# EAGLE library part 2A1024 (library Gemelke_Lab)
SRAM with SPI Interface
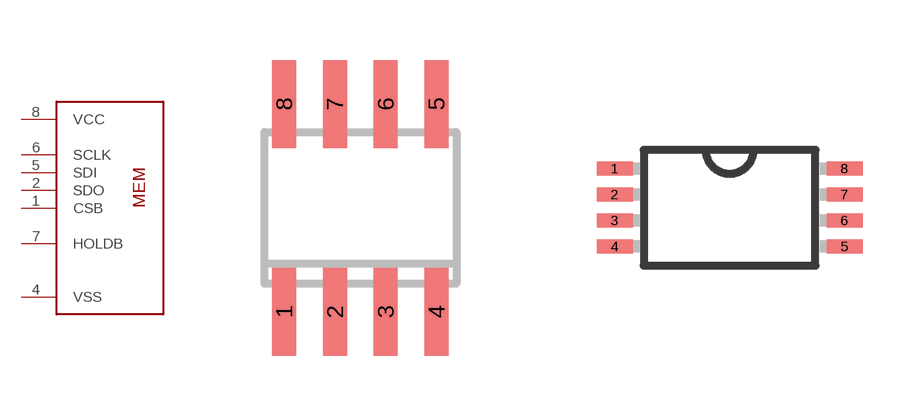
[diagram p6: symbol with the pads of SOIC8; footprints SOIC8, TSSOP8]

Designator prefix -

## 2A1024  [SOIC8]
1  CSB
2  SDO
4  VSS  pwr
5  SDI
6  SCLK
7  HOLDB  pwr
8  VCC  pwr

## 2A1024TSSOP8  [TSSOP8]
Pads as for SOIC8

## Footprint SOIC8 (pad centres in mm)
Small Outline IC
smd 0.6 x 2.2: 1 -1.905,-2.6; 2 -0.635,-2.6; 3 0.635,-2.6; 4 1.905,-2.6; 5 1.905,2.6; 6 0.635,2.6; 7 -0.635,2.6; 8 -1.905,2.6

## Footprint TSSOP8 (pad centres in mm)
8-Lead Thin Shrink Small Outline Package Source: http://www.analog.com/static/imported-files/data_sheets/AD8541_8542_8544.pdf
smd 0.9 x 0.35: 1 -2.875,0.975; 2 -2.875,0.325; 3 -2.875,-0.325; 4 -2.875,-0.975; 5 2.875,-0.975; 6 2.875,-0.325; 7 2.875,0.325; 8 2.875,0.975